# EAGLE library part ZXGD300 (library borkedlabs-transistors)
Power FET Gate Driver (NPN+PNP combo)
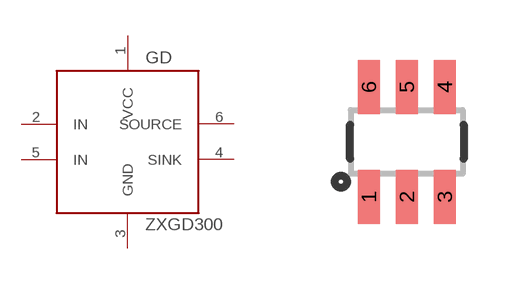
[diagram p1: symbol with the pads of SOT23-6; footprint SOT23-6]

Designator prefix GD

## ZXGD3002E6 (PACKAGE: SOT23-6)  [SOT23-6]
1  VCC
2  IN
3  GND
4  SINK
5  IN
6  SOURCE

## Footprint SOT23-6 (pad centres in mm)
smd 0.55 x 1.35: 1 -0.95,-1.375; 2 0,-1.375; 3 0.95,-1.375; 4 0.95,1.375; 5 0,1.375; 6 -0.95,1.375